# EAGLE library part MINI_FIT_JR_8POS_RA (library UBCSolar)
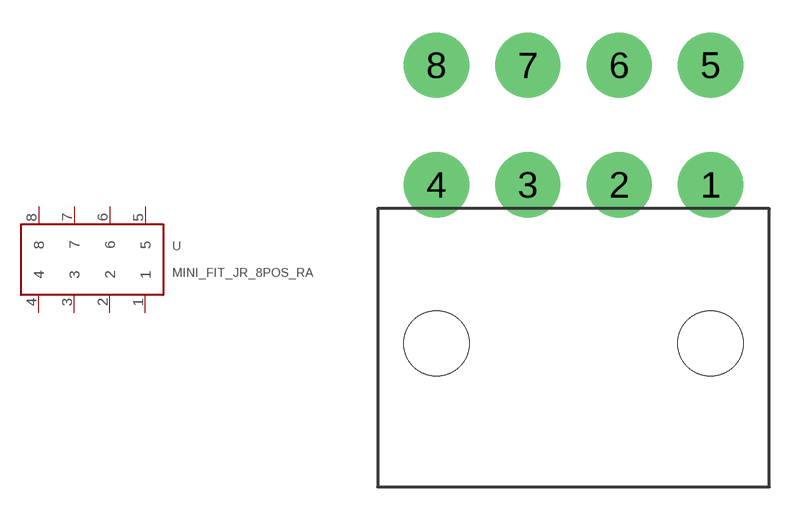
[diagram p15: symbol with the pads of MINI_FIT_JR_8POS_RA; footprint MINI_FIT_JR_8POS_RA]

Designator prefix -

## MINI_FIT_JR_8POS_RA  [MINI_FIT_JR_8POS_RA]
1  1
2  2
3  3
4  4
5  5
6  6
7  7
8  8

## Footprint MINI_FIT_JR_8POS_RA (pad centres in mm)
Mini-fit Jr. 8pos RA connector https://www.digikey.ca/product-detail/en/molex/0039301080/WM1354-ND/561081
drill 1.8 pad 3: 1 6.3,-2.75; 2 2.1,-2.75; 3 -2.1,-2.75; 4 -6.3,-2.75; 5 6.3,2.75; 6 2.1,2.75; 7 -2.1,2.75; 8 -6.3,2.75
hole 3 at 6.3,-10.05
hole 3 at -6.3,-10.05